# Altium integrated library Linear Technology Power Management Switching Regulator LTC1174-LTC3901.IntLib: 2647 symbols (part 247 of 364)
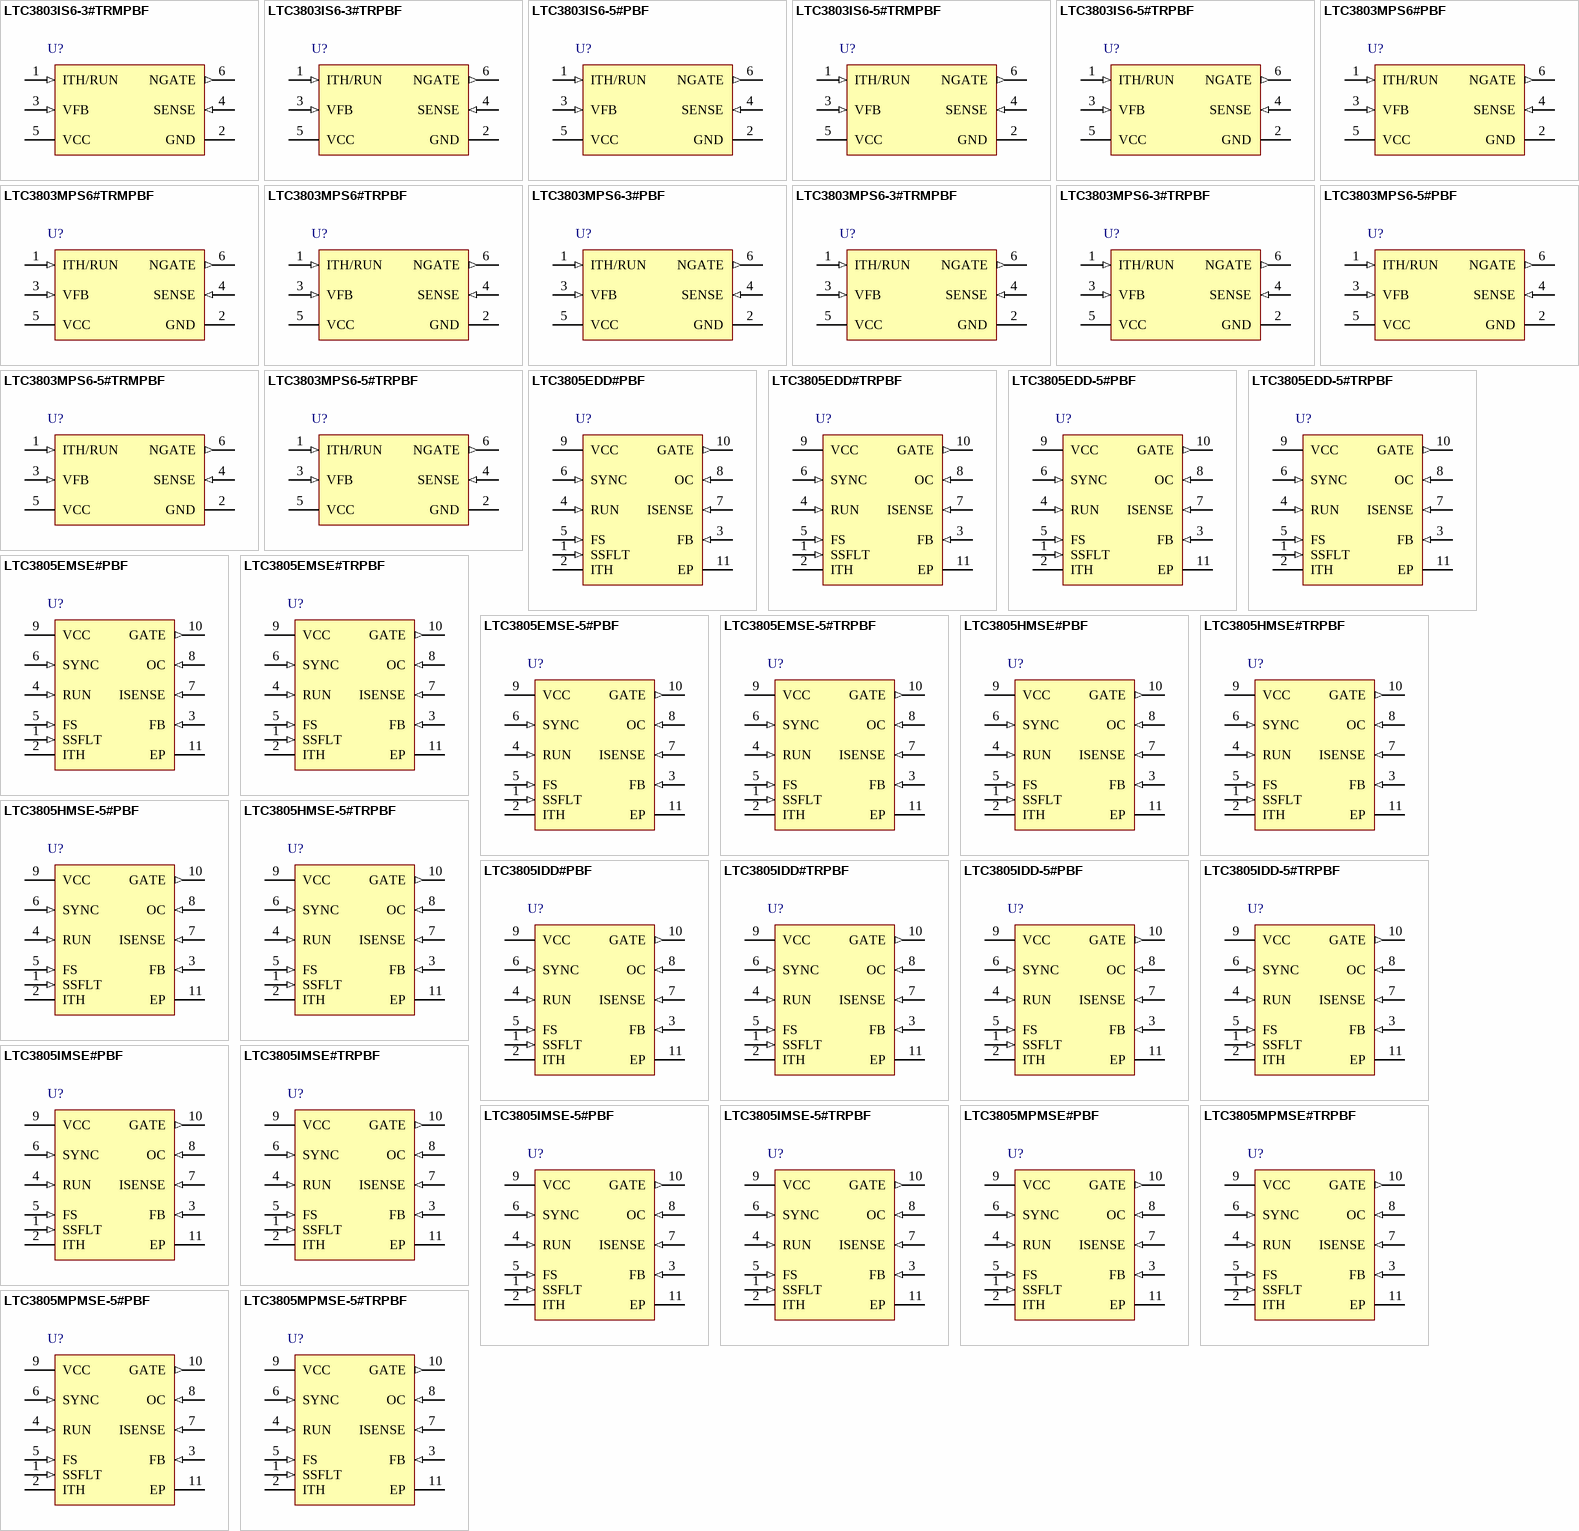
[diagram p342: symbols LTC3803IS6-3#TRMPBF to LTC3805MPMSE-5#TRPBF]

## LTC3805EDD#TRPBF
designator U?
Adjustable Frequency Current Mode Flyback DC/DC Controller, 10-pin SON (DD-10), -40 to 85 degC, Pb-Free, Tape and Reel; Manufacturer: Linear Technology; PartNumber: LTC3805EDD#TRPBF; Frequency Sync Range: 70kHz - 700kHz; Number of Outputs: 1; DatasheetVersion: Rev. G; PackageVersion: Rev. C, 06/2010; PackageReference: DD-10; PackageDescription: 10-Pin Plastic DFN, Body 3 x 3 mm, Pitch 0.5 mm; Supplier 1: Digi-Key; Supplier Part Number 1: LTC3805EDD#TRPBF-ND; Packing: Tape and Reel; RoHS: TRUE; Mounting Technology: Surface Mount; Code_JEDEC: MO-229; ComponentLink1Description: Manufacturer URL; ComponentLink1URL: http://www.linear.com/; ComponentLink2Description: Datasheet; ComponentLink2URL: http://cds.linear.com/docs/en/datasheet/3805fg.pdf; ComponentLink3Description: Package Specification; ComponentLink3URL: http://cds.linear.com/docs/en/packaging/DFN_10_05-08-1699.pdf
footprint LT-DD-10_V (SON, 10-Leads, Body 3x3mm, Pitch 0.5mm, Thermal Pad 2.38x1.65mm)
pins: 1 SSFLT (in) "Soft-Start Pin. A capacitor placed from this pin to GND (Exposed Pad) controls the rate of rise of converter output voltage during start-up. This capacitor is also used for time out after a fault prior to restart.", 2 ITH "Error Amplifier Compensation Point. Normal operating voltage range is clamped between 0.7V and 1.9V.", 3 FB (in) "Receives the feedback voltage from an external resistor divider across the output.", 4 RUN (in) "An external resistor divider connects this pin to VIN and sets the thresholds for converter operation.", 5 FS (in) "A resistor connected from this pin to ground sets the frequency of operation.", 6 SYNC (in) "Input to synchronize the oscillator to an external source.", 7 ISENSE (in) "Performs two functions: for current mode control, it monitors the switch current, using the voltage across an external current sense resistor. Pin 7 also injects a current ramp that develops slope compensation voltage across (See Datasheet)", 8 OC (in) "Overcurrent Pin. Connect this pin to the external switch current sense resistor. An additional resistor programs the overcurrent trip level.", 9 VCC (power) "Supply Pin. A capacitor must closely decouple VCC to GND (Exposed Pad).", 10 GATE (out) "Gate Drive for the External N-Channel MOSFET. This pin swings from GND to VCC.", 11 EP (power) "Ground. A capacitor must closely decouple GND to VCC (Pin 9). The exposed pad must be soldered to electrical ground on PCB for electrical contact and rated thermal performance."

## LTC3805EDD-5#PBF
designator U?
Adjustable Frequency Current Mode Flyback / Boost / SEPIC DC/DC Controller, 10-pin SON (DD-10), -40 to 85 degC, Pb-Free; Manufacturer: Linear Technology; PartNumber: LTC3805EDD-5#PBF; Frequency Sync Range: 70kHz - 700kHz; Number of Outputs: 1; DatasheetVersion: Rev. E; PackageVersion: Rev. C, 06/2010; PackageReference: DD-10; PackageDescription: 10-Pin Plastic DFN, Body 3 x 3 mm, Pitch 0.5 mm; Supplier 1: Digi-Key; Supplier Part Number 1: LTC3805EDD-5#PBF-ND; Supplier 2: Farnell; Supplier Part Number 2: 2295147; Supplier 3: Farnell; Supplier Part Number 3: 1683725; Supplier 4: Newark; Supplier Part Number 4: 79M3553; RoHS: TRUE; Mounting Technology: Surface Mount; Code_JEDEC: MO-229; ComponentLink1Description: Manufacturer URL; ComponentLink1URL: http://www.linear.com/; ComponentLink2Description: Datasheet; ComponentLink2URL: http://cds.linear.com/docs/en/datasheet/38055fd.pdf; ComponentLink3Description: Package Specification; ComponentLink3URL: http://cds.linear.com/docs/en/packaging/DFN_10_05-08-1699.pdf
footprint LT-DD-10_V (SON, 10-Leads, Body 3x3mm, Pitch 0.5mm, Thermal Pad 2.38x1.65mm)
pins: 1 SSFLT (in) "Soft-Start Pin. A capacitor placed from this pin to GND (Exposed Pad) controls the rate of rise of converter output voltage during start-up. This capacitor is also used for time out after a fault prior to restart.", 2 ITH "Error Amplifier Compensation Point. Normal operating voltage range is clamped between 0.7V and 1.9V.", 3 FB (in) "Receives the feedback voltage from an external resistor divider across the output.", 4 RUN (in) "An external resistor divider connects this pin to VIN and sets the thresholds for converter operation.", 5 FS (in) "A resistor connected from this pin to ground sets the frequency of operation.", 6 SYNC (in) "Input to synchronize the oscillator to an external source.", 7 ISENSE (in) "Performs two functions: for current mode control, it monitors the switch current, using the voltage across an external current sense resistor. Pin 7 also injects a current ramp that develops slope compensation voltage across (See Datasheet)", 8 OC (in) "Overcurrent Pin. Connect this pin to the external switch current sense resistor. An additional resistor programs the overcurrent trip level.", 9 VCC (power) "Supply Pin. A capacitor must closely decouple VCC to GND (Exposed Pad).", 10 GATE (out) "Gate Drive for the External N-Channel MOSFET. This pin swings from GND to VCC.", 11 EP (power) "Ground. A capacitor must closely decouple GND to VCC (Pin 9). The exposed pad must be soldered to electrical ground on PCB for electrical contact and rated thermal performance."

## LTC3805EDD-5#TRPBF
designator U?
Adjustable Frequency Current Mode Flyback / Boost / SEPIC DC/DC Controller, 10-pin SON (DD-10), -40 to 85 degC, Pb-Free, Tape and Reel; Manufacturer: Linear Technology; PartNumber: LTC3805EDD-5#TRPBF; Frequency Sync Range: 70kHz - 700kHz; Number of Outputs: 1; DatasheetVersion: Rev. E; PackageVersion: Rev. C, 06/2010; PackageReference: DD-10; PackageDescription: 10-Pin Plastic DFN, Body 3 x 3 mm, Pitch 0.5 mm; Supplier 1: Digi-Key; Supplier Part Number 1: LTC3805EDD-5#TRPBF-ND; Packing: Tape and Reel; RoHS: TRUE; Mounting Technology: Surface Mount; Code_JEDEC: MO-229; ComponentLink1Description: Manufacturer URL; ComponentLink1URL: http://www.linear.com/; ComponentLink2Description: Datasheet; ComponentLink2URL: http://cds.linear.com/docs/en/datasheet/38055fd.pdf; ComponentLink3Description: Package Specification; ComponentLink3URL: http://cds.linear.com/docs/en/packaging/DFN_10_05-08-1699.pdf
footprint LT-DD-10_V (SON, 10-Leads, Body 3x3mm, Pitch 0.5mm, Thermal Pad 2.38x1.65mm)
pins: 1 SSFLT (in) "Soft-Start Pin. A capacitor placed from this pin to GND (Exposed Pad) controls the rate of rise of converter output voltage during start-up. This capacitor is also used for time out after a fault prior to restart.", 2 ITH "Error Amplifier Compensation Point. Normal operating voltage range is clamped between 0.7V and 1.9V.", 3 FB (in) "Receives the feedback voltage from an external resistor divider across the output.", 4 RUN (in) "An external resistor divider connects this pin to VIN and sets the thresholds for converter operation.", 5 FS (in) "A resistor connected from this pin to ground sets the frequency of operation.", 6 SYNC (in) "Input to synchronize the oscillator to an external source.", 7 ISENSE (in) "Performs two functions: for current mode control, it monitors the switch current, using the voltage across an external current sense resistor. Pin 7 also injects a current ramp that develops slope compensation voltage across (See Datasheet)", 8 OC (in) "Overcurrent Pin. Connect this pin to the external switch current sense resistor. An additional resistor programs the overcurrent trip level.", 9 VCC (power) "Supply Pin. A capacitor must closely decouple VCC to GND (Exposed Pad).", 10 GATE (out) "Gate Drive for the External N-Channel MOSFET. This pin swings from GND to VCC.", 11 EP (power) "Ground. A capacitor must closely decouple GND to VCC (Pin 9). The exposed pad must be soldered to electrical ground on PCB for electrical contact and rated thermal performance."

## LTC3805EMSE#PBF
designator U?
Adjustable Frequency Current Mode Flyback DC/DC Controller, 10-pin SOP (MSE-10-EDP), -40 to 85 degC, Pb-Free; Manufacturer: Linear Technology; PartNumber: LTC3805EMSE#PBF; Frequency Sync Range: 70kHz - 700kHz; Number of Outputs: 1; DatasheetVersion: Rev. G; PackageVersion: Rev. I, 05/2013; PackageReference: MSE-10; PackageDescription: 10-Pin Plastic MSOP, Exposed Die Pad, Body 3 x 3 mm, Pitch 0.5 mm; Supplier 1: Digi-Key; Supplier Part Number 1: LTC3805EMSE#PBF-ND; Supplier 2: Farnell; Supplier Part Number 2: 2295148; Supplier 3: Newark; Supplier Part Number 3: 56M8462; RoHS: TRUE; Mounting Technology: Surface Mount; ComponentLink1Description: Manufacturer URL; ComponentLink1URL: http://www.linear.com/; ComponentLink2Description: Datasheet; ComponentLink2URL: http://cds.linear.com/docs/en/datasheet/3805fg.pdf; ComponentLink3Description: Package Specification; ComponentLink3URL: http://cds.linear.com/docs/en/packaging/05081664_I_MSE.pdf
footprint LT-MSE-10-EDP_N (SOP, 10-Leads, Body 3.1x3.1mm, Pitch 0.5mm, Thermal Pad 1.88x1.68mm, IPC Medium Density)
footprint LT-MSE-10-EDP_L (SOP, 10-Leads, Body 3.1x3.1mm, Pitch 0.5mm, Thermal Pad 1.88x1.68mm, IPC High Density)
footprint LT-MSE-10-EDP_M (SOP, 10-Leads, Body 3.1x3.1mm, Pitch 0.5mm, Thermal Pad 1.88x1.68mm, IPC Low Density)
pins: 1 SSFLT (in) "Soft-Start Pin. A capacitor placed from this pin to GND (Exposed Pad) controls the rate of rise of converter output voltage during start-up. This capacitor is also used for time out after a fault prior to restart.", 2 ITH "Error Amplifier Compensation Point. Normal operating voltage range is clamped between 0.7V and 1.9V.", 3 FB (in) "Receives the feedback voltage from an external resistor divider across the output.", 4 RUN (in) "An external resistor divider connects this pin to VIN and sets the thresholds for converter operation.", 5 FS (in) "A resistor connected from this pin to ground sets the frequency of operation.", 6 SYNC (in) "Input to synchronize the oscillator to an external source.", 7 ISENSE (in) "Performs two functions: for current mode control, it monitors the switch current, using the voltage across an external current sense resistor. Pin 7 also injects a current ramp that develops slope compensation voltage across (See Datasheet)", 8 OC (in) "Overcurrent Pin. Connect this pin to the external switch current sense resistor. An additional resistor programs the overcurrent trip level.", 9 VCC (power) "Supply Pin. A capacitor must closely decouple VCC to GND (Exposed Pad).", 10 GATE (out) "Gate Drive for the External N-Channel MOSFET. This pin swings from GND to VCC.", 11 EP (power) "Ground. A capacitor must closely decouple GND to VCC (Pin 9). The exposed pad must be soldered to electrical ground on PCB for electrical contact and rated thermal performance."

## LTC3805EMSE#TRPBF
designator U?
Adjustable Frequency Current Mode Flyback DC/DC Controller, 10-pin SOP (MSE-10-EDP), -40 to 85 degC, Pb-Free, Tape and Reel; Manufacturer: Linear Technology; PartNumber: LTC3805EMSE#TRPBF; Frequency Sync Range: 70kHz - 700kHz; Number of Outputs: 1; DatasheetVersion: Rev. G; PackageVersion: Rev. I, 05/2013; PackageReference: MSE-10; PackageDescription: 10-Pin Plastic MSOP, Exposed Die Pad, Body 3 x 3 mm, Pitch 0.5 mm; Supplier 1: Digi-Key; Supplier Part Number 1: LTC3805EMSE#TRPBF-ND; Supplier 2: Newark; Supplier Part Number 2: 56M8463; Packing: Tape and Reel; RoHS: TRUE; Mounting Technology: Surface Mount; ComponentLink1Description: Manufacturer URL; ComponentLink1URL: http://www.linear.com/; ComponentLink2Description: Datasheet; ComponentLink2URL: http://cds.linear.com/docs/en/datasheet/3805fg.pdf; ComponentLink3Description: Package Specification; ComponentLink3URL: http://cds.linear.com/docs/en/packaging/05081664_I_MSE.pdf
footprint LT-MSE-10-EDP_N (SOP, 10-Leads, Body 3.1x3.1mm, Pitch 0.5mm, Thermal Pad 1.88x1.68mm, IPC Medium Density)
footprint LT-MSE-10-EDP_L (SOP, 10-Leads, Body 3.1x3.1mm, Pitch 0.5mm, Thermal Pad 1.88x1.68mm, IPC High Density)
footprint LT-MSE-10-EDP_M (SOP, 10-Leads, Body 3.1x3.1mm, Pitch 0.5mm, Thermal Pad 1.88x1.68mm, IPC Low Density)
pins: 1 SSFLT (in) "Soft-Start Pin. A capacitor placed from this pin to GND (Exposed Pad) controls the rate of rise of converter output voltage during start-up. This capacitor is also used for time out after a fault prior to restart.", 2 ITH "Error Amplifier Compensation Point. Normal operating voltage range is clamped between 0.7V and 1.9V.", 3 FB (in) "Receives the feedback voltage from an external resistor divider across the output.", 4 RUN (in) "An external resistor divider connects this pin to VIN and sets the thresholds for converter operation.", 5 FS (in) "A resistor connected from this pin to ground sets the frequency of operation.", 6 SYNC (in) "Input to synchronize the oscillator to an external source.", 7 ISENSE (in) "Performs two functions: for current mode control, it monitors the switch current, using the voltage across an external current sense resistor. Pin 7 also injects a current ramp that develops slope compensation voltage across (See Datasheet)", 8 OC (in) "Overcurrent Pin. Connect this pin to the external switch current sense resistor. An additional resistor programs the overcurrent trip level.", 9 VCC (power) "Supply Pin. A capacitor must closely decouple VCC to GND (Exposed Pad).", 10 GATE (out) "Gate Drive for the External N-Channel MOSFET. This pin swings from GND to VCC.", 11 EP (power) "Ground. A capacitor must closely decouple GND to VCC (Pin 9). The exposed pad must be soldered to electrical ground on PCB for electrical contact and rated thermal performance."

## LTC3805EMSE-5#PBF
designator U?
Adjustable Frequency Current Mode Flyback / Boost / SEPIC DC/DC Controller, 10-pin SOP (MSE-10-EDP), -40 to 85 degC, Pb-Free; Manufacturer: Linear Technology; PartNumber: LTC3805EMSE-5#PBF; Frequency Sync Range: 70kHz - 700kHz; Number of Outputs: 1; DatasheetVersion: Rev. E; PackageVersion: Rev. I, 05/2013; PackageReference: MSE-10; PackageDescription: 10-Pin Plastic MSOP, Exposed Die Pad, Body 3 x 3 mm, Pitch 0.5 mm; Supplier 1: Digi-Key; Supplier Part Number 1: LTC3805EMSE-5#PBF-ND; Supplier 2: Farnell; Supplier Part Number 2: 2295149; Supplier 3: Newark; Supplier Part Number 3: 79M3555; RoHS: TRUE; Mounting Technology: Surface Mount; ComponentLink1Description: Manufacturer URL; ComponentLink1URL: http://www.linear.com/; ComponentLink2Description: Datasheet; ComponentLink2URL: http://cds.linear.com/docs/en/datasheet/38055fd.pdf; ComponentLink3Description: Package Specification; ComponentLink3URL: http://cds.linear.com/docs/en/packaging/05081664_I_MSE.pdf
footprint LT-MSE-10-EDP_N (SOP, 10-Leads, Body 3.1x3.1mm, Pitch 0.5mm, Thermal Pad 1.88x1.68mm, IPC Medium Density)
footprint LT-MSE-10-EDP_L (SOP, 10-Leads, Body 3.1x3.1mm, Pitch 0.5mm, Thermal Pad 1.88x1.68mm, IPC High Density)
footprint LT-MSE-10-EDP_M (SOP, 10-Leads, Body 3.1x3.1mm, Pitch 0.5mm, Thermal Pad 1.88x1.68mm, IPC Low Density)
pins: 1 SSFLT (in) "Soft-Start Pin. A capacitor placed from this pin to GND (Exposed Pad) controls the rate of rise of converter output voltage during start-up. This capacitor is also used for time out after a fault prior to restart.", 2 ITH "Error Amplifier Compensation Point. Normal operating voltage range is clamped between 0.7V and 1.9V.", 3 FB (in) "Receives the feedback voltage from an external resistor divider across the output.", 4 RUN (in) "An external resistor divider connects this pin to VIN and sets the thresholds for converter operation.", 5 FS (in) "A resistor connected from this pin to ground sets the frequency of operation.", 6 SYNC (in) "Input to synchronize the oscillator to an external source.", 7 ISENSE (in) "Performs two functions: for current mode control, it monitors the switch current, using the voltage across an external current sense resistor. Pin 7 also injects a current ramp that develops slope compensation voltage across (See Datasheet)", 8 OC (in) "Overcurrent Pin. Connect this pin to the external switch current sense resistor. An additional resistor programs the overcurrent trip level.", 9 VCC (power) "Supply Pin. A capacitor must closely decouple VCC to GND (Exposed Pad).", 10 GATE (out) "Gate Drive for the External N-Channel MOSFET. This pin swings from GND to VCC.", 11 EP (power) "Ground. A capacitor must closely decouple GND to VCC (Pin 9). The exposed pad must be soldered to electrical ground on PCB for electrical contact and rated thermal performance."

## LTC3805EMSE-5#TRPBF
designator U?
Adjustable Frequency Current Mode Flyback / Boost / SEPIC DC/DC Controller, 10-pin SOP (MSE-10-EDP), -40 to 85 degC, Pb-Free, Tape and Reel; Manufacturer: Linear Technology; PartNumber: LTC3805EMSE-5#TRPBF; Frequency Sync Range: 70kHz - 700kHz; Number of Outputs: 1; DatasheetVersion: Rev. E; PackageVersion: Rev. I, 05/2013; PackageReference: MSE-10; PackageDescription: 10-Pin Plastic MSOP, Exposed Die Pad, Body 3 x 3 mm, Pitch 0.5 mm; Supplier 1: Digi-Key; Supplier Part Number 1: LTC3805EMSE-5#TRPBF-ND; Supplier 2: Newark; Supplier Part Number 2: 79M3556; Packing: Tape and Reel; RoHS: TRUE; Mounting Technology: Surface Mount; ComponentLink1Description: Manufacturer URL; ComponentLink1URL: http://www.linear.com/; ComponentLink2Description: Datasheet; ComponentLink2URL: http://cds.linear.com/docs/en/datasheet/38055fd.pdf; ComponentLink3Description: Package Specification; ComponentLink3URL: http://cds.linear.com/docs/en/packaging/05081664_I_MSE.pdf
footprint LT-MSE-10-EDP_N (SOP, 10-Leads, Body 3.1x3.1mm, Pitch 0.5mm, Thermal Pad 1.88x1.68mm, IPC Medium Density)
footprint LT-MSE-10-EDP_L (SOP, 10-Leads, Body 3.1x3.1mm, Pitch 0.5mm, Thermal Pad 1.88x1.68mm, IPC High Density)
footprint LT-MSE-10-EDP_M (SOP, 10-Leads, Body 3.1x3.1mm, Pitch 0.5mm, Thermal Pad 1.88x1.68mm, IPC Low Density)
pins: 1 SSFLT (in) "Soft-Start Pin. A capacitor placed from this pin to GND (Exposed Pad) controls the rate of rise of converter output voltage during start-up. This capacitor is also used for time out after a fault prior to restart.", 2 ITH "Error Amplifier Compensation Point. Normal operating voltage range is clamped between 0.7V and 1.9V.", 3 FB (in) "Receives the feedback voltage from an external resistor divider across the output.", 4 RUN (in) "An external resistor divider connects this pin to VIN and sets the thresholds for converter operation.", 5 FS (in) "A resistor connected from this pin to ground sets the frequency of operation.", 6 SYNC (in) "Input to synchronize the oscillator to an external source.", 7 ISENSE (in) "Performs two functions: for current mode control, it monitors the switch current, using the voltage across an external current sense resistor. Pin 7 also injects a current ramp that develops slope compensation voltage across (See Datasheet)", 8 OC (in) "Overcurrent Pin. Connect this pin to the external switch current sense resistor. An additional resistor programs the overcurrent trip level.", 9 VCC (power) "Supply Pin. A capacitor must closely decouple VCC to GND (Exposed Pad).", 10 GATE (out) "Gate Drive for the External N-Channel MOSFET. This pin swings from GND to VCC.", 11 EP (power) "Ground. A capacitor must closely decouple GND to VCC (Pin 9). The exposed pad must be soldered to electrical ground on PCB for electrical contact and rated thermal performance."

## LTC3805HMSE#PBF
designator U?
Adjustable Frequency Current Mode Flyback DC/DC Controller, 10-pin SOP (MSE-10-EDP), -40 to 150 degC, Pb-Free; Manufacturer: Linear Technology; PartNumber: LTC3805HMSE#PBF; Frequency Sync Range: 70kHz - 700kHz; Number of Outputs: 1; DatasheetVersion: Rev. G; PackageVersion: Rev. I, 05/2013; PackageReference: MSE-10; PackageDescription: 10-Pin Plastic MSOP, Exposed Die Pad, Body 3 x 3 mm, Pitch 0.5 mm; Supplier 1: Digi-Key; Supplier Part Number 1: LTC3805HMSE#PBF-ND; Supplier 2: Farnell; Supplier Part Number 2: 1696247; Supplier 3: Newark; Supplier Part Number 3: 51P3120; RoHS: TRUE; Mounting Technology: Surface Mount; ComponentLink1Description: Manufacturer URL; ComponentLink1URL: http://www.linear.com/; ComponentLink2Description: Datasheet; ComponentLink2URL: http://cds.linear.com/docs/en/datasheet/3805fg.pdf; ComponentLink3Description: Package Specification; ComponentLink3URL: http://cds.linear.com/docs/en/packaging/05081664_I_MSE.pdf
footprint LT-MSE-10-EDP_N (SOP, 10-Leads, Body 3.1x3.1mm, Pitch 0.5mm, Thermal Pad 1.88x1.68mm, IPC Medium Density)
footprint LT-MSE-10-EDP_L (SOP, 10-Leads, Body 3.1x3.1mm, Pitch 0.5mm, Thermal Pad 1.88x1.68mm, IPC High Density)
footprint LT-MSE-10-EDP_M (SOP, 10-Leads, Body 3.1x3.1mm, Pitch 0.5mm, Thermal Pad 1.88x1.68mm, IPC Low Density)
pins: 1 SSFLT (in) "Soft-Start Pin. A capacitor placed from this pin to GND (Exposed Pad) controls the rate of rise of converter output voltage during start-up. This capacitor is also used for time out after a fault prior to restart.", 2 ITH "Error Amplifier Compensation Point. Normal operating voltage range is clamped between 0.7V and 1.9V.", 3 FB (in) "Receives the feedback voltage from an external resistor divider across the output.", 4 RUN (in) "An external resistor divider connects this pin to VIN and sets the thresholds for converter operation.", 5 FS (in) "A resistor connected from this pin to ground sets the frequency of operation.", 6 SYNC (in) "Input to synchronize the oscillator to an external source.", 7 ISENSE (in) "Performs two functions: for current mode control, it monitors the switch current, using the voltage across an external current sense resistor. Pin 7 also injects a current ramp that develops slope compensation voltage across (See Datasheet)", 8 OC (in) "Overcurrent Pin. Connect this pin to the external switch current sense resistor. An additional resistor programs the overcurrent trip level.", 9 VCC (power) "Supply Pin. A capacitor must closely decouple VCC to GND (Exposed Pad).", 10 GATE (out) "Gate Drive for the External N-Channel MOSFET. This pin swings from GND to VCC.", 11 EP (power) "Ground. A capacitor must closely decouple GND to VCC (Pin 9). The exposed pad must be soldered to electrical ground on PCB for electrical contact and rated thermal performance."

## LTC3805HMSE#TRPBF
designator U?
Adjustable Frequency Current Mode Flyback DC/DC Controller, 10-pin SOP (MSE-10-EDP), -40 to 150 degC, Pb-Free, Tape and Reel; Manufacturer: Linear Technology; PartNumber: LTC3805HMSE#TRPBF; Frequency Sync Range: 70kHz - 700kHz; Number of Outputs: 1; DatasheetVersion: Rev. G; PackageVersion: Rev. I, 05/2013; PackageReference: MSE-10; PackageDescription: 10-Pin Plastic MSOP, Exposed Die Pad, Body 3 x 3 mm, Pitch 0.5 mm; Supplier 1: Digi-Key; Supplier Part Number 1: LTC3805HMSE#TRPBF-ND; Packing: Tape and Reel; RoHS: TRUE; Mounting Technology: Surface Mount; ComponentLink1Description: Manufacturer URL; ComponentLink1URL: http://www.linear.com/; ComponentLink2Description: Datasheet; ComponentLink2URL: http://cds.linear.com/docs/en/datasheet/3805fg.pdf; ComponentLink3Description: Package Specification; ComponentLink3URL: http://cds.linear.com/docs/en/packaging/05081664_I_MSE.pdf
footprint LT-MSE-10-EDP_N (SOP, 10-Leads, Body 3.1x3.1mm, Pitch 0.5mm, Thermal Pad 1.88x1.68mm, IPC Medium Density)
footprint LT-MSE-10-EDP_L (SOP, 10-Leads, Body 3.1x3.1mm, Pitch 0.5mm, Thermal Pad 1.88x1.68mm, IPC High Density)
footprint LT-MSE-10-EDP_M (SOP, 10-Leads, Body 3.1x3.1mm, Pitch 0.5mm, Thermal Pad 1.88x1.68mm, IPC Low Density)
pins: 1 SSFLT (in) "Soft-Start Pin. A capacitor placed from this pin to GND (Exposed Pad) controls the rate of rise of converter output voltage during start-up. This capacitor is also used for time out after a fault prior to restart.", 2 ITH "Error Amplifier Compensation Point. Normal operating voltage range is clamped between 0.7V and 1.9V.", 3 FB (in) "Receives the feedback voltage from an external resistor divider across the output.", 4 RUN (in) "An external resistor divider connects this pin to VIN and sets the thresholds for converter operation.", 5 FS (in) "A resistor connected from this pin to ground sets the frequency of operation.", 6 SYNC (in) "Input to synchronize the oscillator to an external source.", 7 ISENSE (in) "Performs two functions: for current mode control, it monitors the switch current, using the voltage across an external current sense resistor. Pin 7 also injects a current ramp that develops slope compensation voltage across (See Datasheet)", 8 OC (in) "Overcurrent Pin. Connect this pin to the external switch current sense resistor. An additional resistor programs the overcurrent trip level.", 9 VCC (power) "Supply Pin. A capacitor must closely decouple VCC to GND (Exposed Pad).", 10 GATE (out) "Gate Drive for the External N-Channel MOSFET. This pin swings from GND to VCC.", 11 EP (power) "Ground. A capacitor must closely decouple GND to VCC (Pin 9). The exposed pad must be soldered to electrical ground on PCB for electrical contact and rated thermal performance."